# EAGLE library part PSX_CONTROLLER (library SW_Connectors)
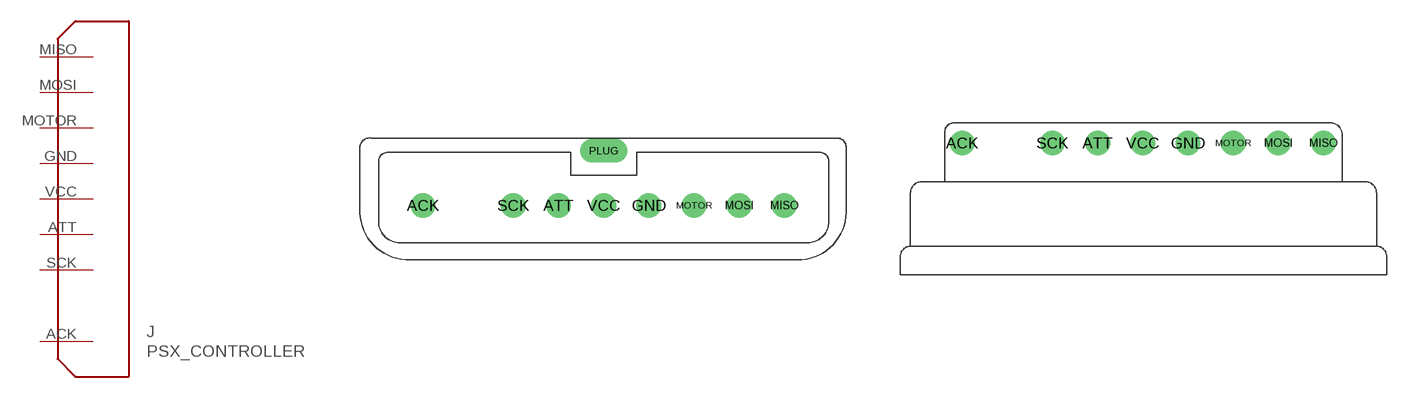
[diagram p13: symbol with the pads of PSX_VERTICAL; footprints PSX_VERTICAL, PSX_HORIZONTAL]

Designator prefix J

## PSX_CONTROLLER (CATEGORY: Connector; PACKAGE: PSX-CONN)  [PSX_VERTICAL]
ACK  ACK
ATT  ATT
GND  GND
MISO  MISO
MOSI  MOSI
MOTOR  MOTOR
SCK  SCK
VCC  VCC

## PSX_CONTROLLERPSX_HORIZONTAL (CATEGORY: Connector; PACKAGE: PSX-CONN)  [PSX_HORIZONTAL]
Pads as for PSX_VERTICAL

## Footprint PSX_VERTICAL (pad centres in mm)
drill 1.3 pad 2.2: ACK -16,0; ATT -4,0; GND 4,0; MISO 16,0; MOSI 12,0; MOTOR 8,0; SCK -8,0; VCC 0,0
drill 1.4 pad 1.93 long: PLUG 0,4.826

## Footprint PSX_HORIZONTAL (pad centres in mm)
drill 1.3 pad 2.2: ACK -16,0; ATT -4,0; GND 4,0; MISO 16,0; MOSI 12,0; MOTOR 8,0; SCK -8,0; VCC 0,0